# Altium footprint library wifi_alarm_clock.PcbLib: 25 footprints (part 2 of 2)
Each footprint in its own frame and in the unit in brackets; x right, y up, seen from the top. Pads: shape width x height; smd on the part's side, far side on the other; paste and mask are expansions set on the pad; w line width, h text height; cw(c..) or ccw(c..) is an arc to the next point about the centre after c.
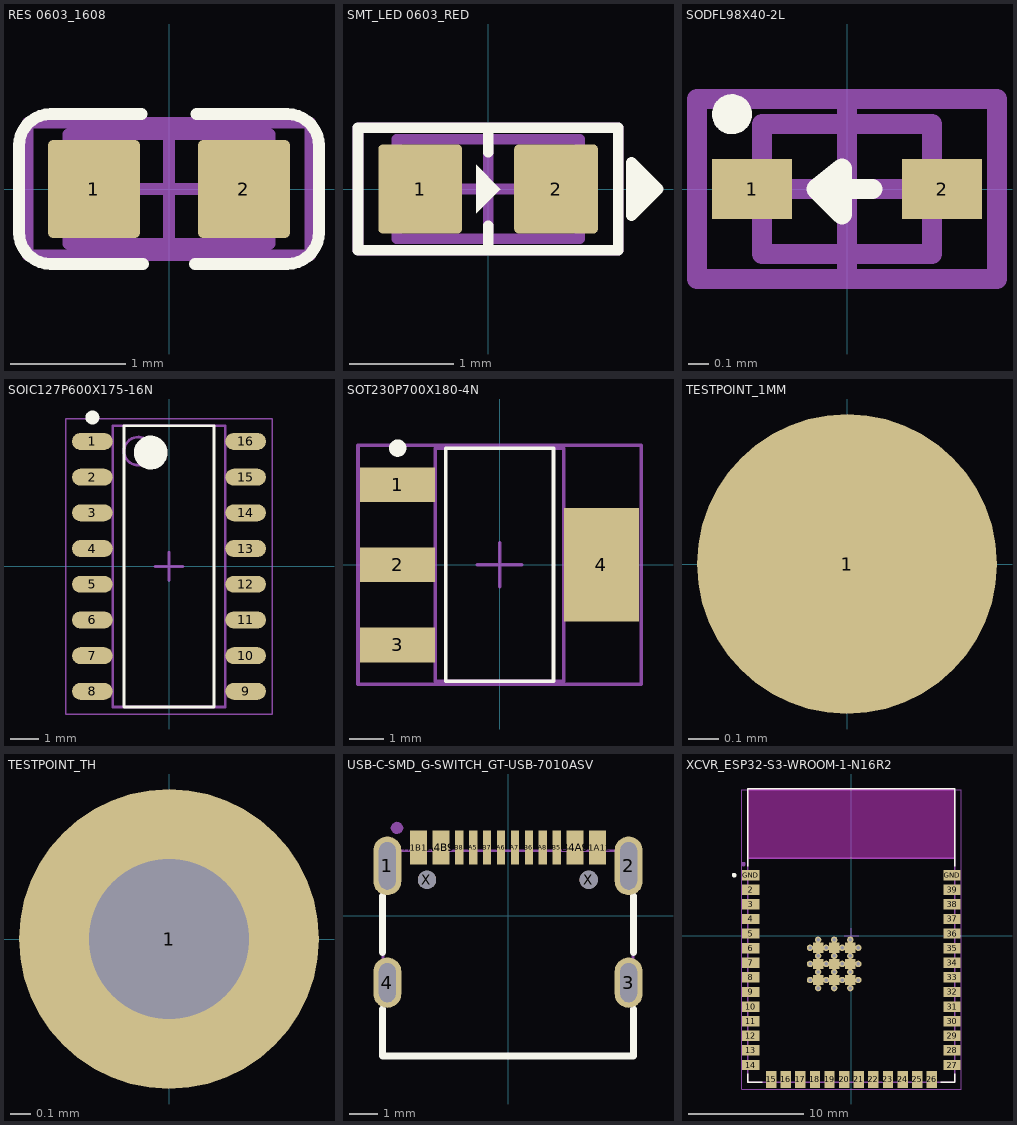
[diagram p1: the footprints below, top view; thin cyan lines are the x and y axes]

## RES 0603_1608 [mm] "Chip Resistor, 2-Leads, Body 1.60x0.80mm, IPC Medium Density"
height 0.45
pads (2):
  rrect12% 0.8x0.85 smd: 1(-0.65,0) 2(0.65,0)
Top Overlay:
  lines w0.102: -0.238,0.65 -1.025,0.65 ccw(c-1.025,0.375) -1.3,0.375 -1.3,-0.375 ccw(c-1.025,-0.375) -1.025,-0.65 -0.225,-0.65 ; 0.225,-0.65 1.025,-0.65 ccw(c1.025,-0.375) 1.3,-0.375 1.3,0.375 ccw(c1.025,0.375) 1.025,0.65 0.238,0.65
Top Courtyard:
  lines w0.102: -0.475,0 0.475,0 ; 0,-0.475 0,0.475 ; -1.225,-0.575 1.225,-0.575 1.225,0.575 -1.225,0.575 -1.225,-0.575
Top Assembly:
  lines w0.1: -0.875,-0.475 0.875,-0.475 0.875,0.475 -0.875,0.475 -0.875,-0.475
3D body "0603 resistor.STEP": height 0.45, standoff 0, extent -0.8,-0.4 0.8,0.4

## SMT_LED 0603_RED [mm] "Chip Diode, 2-Leads, Body 1.60x0.80mm, IPC Medium Density"
height 0.45
pads (2):
  rrect10% 0.8x0.85 smd: 1(-0.65,0) 2(0.65,0)
Top Overlay:
  region: -0.114,0.231 -0.114,-0.231 0.117,0
  region: -0.114,0.191
  region: 1.372,0.254 1.626,0 1.372,-0.254
  lines w0.102: 0,-0.584 0,-0.35 ; 0,0.35 0,0.584 ; -1.245,-0.584 -1.245,0.584 1.245,0.584 1.245,-0.584 -1.245,-0.584 ; 1.372,-0.254 1.626,0 1.372,0.254 1.372,-0.254
Top Courtyard:
  lines w0.102: -0.475,0 0.475,0 ; 0,-0.475 0,0.475 ; -1.245,-0.584 1.245,-0.584 1.245,0.584 -1.245,0.584 -1.245,-0.584
Top Assembly:
  lines w0.1: -0.875,-0.475 0.875,-0.475 0.875,0.475 -0.875,0.475 -0.875,-0.475
3D body "LED 0603 Base RED.STEP": height 0.28, standoff 0, extent -0.8,-0.4 0.8,0.4
3D body "LED 0603 Lens RED.STEP": height 0.53, standoff 0.18, extent -0.55,-0.4 0.55,0.4

## SODFL98X40-2L [mm] "SODFL, 0.6x1.0mm"
height 0.4
pads (2):
  rrect1% 0.4x0.3 smd: 1(-0.475,0) 2(0.475,0)
Top Overlay:
  circle w0.1: c-0.575,0.374 r0.05
  lines w0.102: 0.127,0 -0.152,0 ; -0.152,0 -0.025,-0.127 -0.025,0.102 -0.152,0
Top Courtyard:
  lines w0.102: -0.5,0 0.5,0 ; 0,-0.45 0,0.45 ; -0.75,-0.45 -0.75,0.45 0.75,0.45 0.75,-0.45 -0.75,-0.45
Top Assembly:
  lines w0.102: -0.425,-0.325 -0.425,0.325 0.425,0.325 0.425,-0.325 -0.425,-0.325
3D body "SODFL98X40-2L.step": height 0.4, standoff 0, extent -0.487,-0.325 0.487,0.325

## SOIC127P600X175-16N [mm] "SOIC, 16-Leads, Body 9.90x3.90mm, Pitch 1.27mm, IPC Medium Density"
height 1.75
pads (16):
  oval 1.45x0.6 smd: 1(-2.725,4.445) 2(-2.725,3.175) 3(-2.725,1.905) 4(-2.725,0.635) 5(-2.725,-0.635) 6(-2.725,-1.905) 7(-2.725,-3.175) 8(-2.725,-4.445) 9(2.725,-4.445) 10(2.725,-3.175) 11(2.725,-1.905) 12(2.725,-0.635) 13(2.725,0.635) 14(2.725,1.905) 15(2.725,3.175) 16(2.725,4.445)
Top Overlay:
  circle w0.6: c-0.649,4.049 r0.3
  circle w0.25: c-2.725,5.295 r0.125
  lines w0.102: -1.6,-5 1.6,-5 1.6,5 -1.6,5 -1.6,-5
Top Courtyard:
  lines w0.05: -3.675,-5.25 3.675,-5.25 3.675,5.25 -3.675,5.25 -3.675,-5.25
  lines w0.1: -0.5,0 0.5,0 ; 0,-0.5 0,0.5
Top Assembly:
  circle w0.1: c-1.1,4.1 r0.5
  lines w0.1: -2,-5 2,-5 2,5 -2,5 -2,-5
3D body "SOIC127P600X175-16N.step": height 1.75, standoff 0, extent -3,-5 3,5

## SOT230P700X180-4N [mm] "SOT223, 4-Leads, Body 6.50x7.00mm (avg), Pitch 2.30mm, IPC Medium Density"
height 1.8
pads (4):
  rect 2.15x1 smd: 1(-2.925,2.3) 2(-2.925,0) 3(-2.925,-2.3)
  rect 2.15x3.25 smd: 4(2.925,0)
Top Overlay:
  circle w0.25: c-2.925,3.35 r0.125
  lines w0.102: -1.55,-3.35 -1.55,3.35 1.55,3.35 1.55,-3.35 -1.55,-3.35
Top Courtyard:
  lines w0.102: -0.635,0 0.635,0 ; 0,-0.635 0,0.635 ; -4.064,-3.429 4.064,-3.429 4.064,3.429 -4.064,3.429 -4.064,-3.429
Top Assembly:
  lines w0.1: -1.85,-3.35 -1.85,3.35 1.85,3.35 1.85,-3.35 -1.85,-3.35
3D body "SOT230P700X180-4N.step": height 1.8, standoff 0, extent -3.5,-3.35 3.5,3.35

## TESTPOINT_1MM [mm]
pads (1):
  round 1 smd paste-99 mask+0: 1(0,0)

## TESTPOINT_TH [mm]
pads (1):
  round 1.5 hole 0.8 mask+0: 1(0,0)

## USB-C-SMD_G-SWITCH_GT-USB-7010ASV [mm]
pads (18):
  oval 1x2.1 hole 0.6 slot 1.7 at 90 deg paste+0 mask+0.05: 1(-4.32,1.78) 2(4.32,1.78)
  oval 1x1.8 hole 0.6 slot 1.4 at 90 deg paste+0 mask+0.05: 3(4.32,-2.4) 4(-4.32,-2.4)
  rect 0.6x1.205 smd paste-100 mask+0.11: A1B12(-3.2,2.435) A4B9(-2.4,2.435) B1A12(3.2,2.435) B4A9(2.4,2.435)
  rect 0.3x1.205 smd paste-100 mask+0.11: A5(-1.25,2.435) A6(-0.25,2.435) A7(0.25,2.435) A8(1.25,2.435) B5(1.75,2.435) B6(0.75,2.435) B7(-0.75,2.435) B8(-1.75,2.435)
  round 0.65 hole 0.65 unplated paste-99 mask+0: X(-2.9,1.28) X(2.89,1.28)
Top Overlay:
  lines w0.254: -4.5,-3.339 -4.5,-5.03 4.5,-5.03 4.5,-3.339 ; -4.5,-1.322 -4.5,0.691 ; 4.5,-1.322 4.5,0.691
Top Paste:
  drawing of 16 lines, arcs and shapes, not listed
Top Assembly:
  region: -3.758,3.117 -3.755,3.159 -3.782,3.24 -3.837,3.305 -3.913,3.345 -3.998,3.353 -4.079,3.329 -4.146,3.275 -4.188,3.201 -4.193,3.159 -4.196,3.116 -4.169,3.035 -4.114,2.971 -4.038,2.931 -3.953,2.923 -3.872,2.947 -3.805,3 -3.763,3.075
  lines w0.102: -4.47,-5.03 -4.47,2.32 4.47,2.32 4.47,-5.03 -4.47,-5.03
3D body "usb4105-xx-a-060.stp": height -0.97, standoff -4.86, extent -4.47,-4.982 4.47,2.718

## XCVR_ESP32-S3-WROOM-1-N16R2 [mm]
height 3.25
pads (73):
  rect 1.5x0.9 smd: 2(-8.75,3.99) 3(-8.75,2.72) 4(-8.75,1.45) 5(-8.75,0.18) 6(-8.75,-1.09) 7(-8.75,-2.36) 8(-8.75,-3.63) 9(-8.75,-4.9) 10(-8.75,-6.17) 11(-8.75,-7.44) 12(-8.75,-8.71) 13(-8.75,-9.98) 14(-8.75,-11.25) 27(8.75,-11.25) 28(8.75,-9.98) 29(8.75,-8.71) 30(8.75,-7.44) 31(8.75,-6.17) 32(8.75,-4.9) 33(8.75,-3.63) 34(8.75,-2.36) 35(8.75,-1.09) 36(8.75,0.18) 37(8.75,1.45) 38(8.75,2.72) 39(8.75,3.99) GND(-8.75,5.26) GND(8.75,5.26)
  rect 0.9x1.5 smd: 15(-6.985,-12.5) 16(-5.715,-12.5) 17(-4.445,-12.5) 18(-3.175,-12.5) 19(-1.905,-12.5) 20(-0.635,-12.5) 21(0.635,-12.5) 22(1.905,-12.5) 23(3.175,-12.5) 24(4.445,-12.5) 25(5.715,-12.5) 26(6.985,-12.5)
  round 0.56 hole 0.3 mask+0: GND(-3.6,-3.86) GND(-3.6,-2.46) GND(-3.6,-1.06) GND(-2.9,-4.56) GND(-2.9,-3.16) GND(-2.9,-1.76) GND(-2.9,-0.36) GND(-2.2,-3.86) GND(-2.2,-2.46) GND(-2.2,-1.06) GND(-1.5,-4.56) GND(-1.5,-3.16) GND(-1.5,-1.76) GND(-1.5,-0.36) GND(-0.8,-3.86) GND(-0.8,-2.46) GND(-0.8,-1.06) GND(-0.1,-4.56) GND(-0.1,-3.16) GND(-0.1,-1.76) GND(-0.1,-0.36) GND(0.6,-3.86) GND(0.6,-2.46) GND(0.6,-1.06)
  rect 0.9x0.9 smd mask+0: GND(-2.9,-3.86) GND(-2.9,-2.46) GND(-2.9,-1.06) GND(-1.5,-3.86) GND(-1.5,-2.46) GND(-1.5,-1.06) GND(-0.1,-3.86) GND(-0.1,-2.46) GND(-0.1,-1.06)
Top Overlay:
  circle w0.2: c-10.2,5.26 r0.1
  lines w0.127: -9,-12.02 -9,-12.75 -7.755,-12.75 ; -9,6.03 -9,12.75 9,12.75 9,6.03 ; 7.755,-12.75 9,-12.75 9,-12.02
Keep-Out Layer:
  region: 9,6.75 -9,6.75 -9,12.75 9,12.75
  region: 9,6.75 -9,6.75 -9,12.75 9,12.75
Top Courtyard:
  lines w0.102: -0.635,0 0.635,0 ; 0,-0.635 0,0.635 ; -9.525,-13.335 9.525,-13.335 9.525,12.7 -9.525,12.7 -9.525,-13.335
Top Assembly:
  circle w0.2: c-9.398,6.223 r0.1
  lines w0.127: -9,6.75 9,6.75 ; -9,6.75 -9,12.75 9,12.75 9,6.75 ; -9,6.75 -9,-12.75 9,-12.75 9,6.75
  text "ANTENNA" at -4.5,9.5 h1.27
3D body "step_temp.STEP": height 3.25, standoff 0, extent -9,-12.75 9,12.75